# Altium footprint library LDO.PcbLib: 1 footprints
Each footprint in its own frame and in the unit in brackets; x right, y up, seen from the top. Pads: shape width x height; smd on the part's side, far side on the other; paste and mask are expansions set on the pad; w line width, h text height; cw(c..) or ccw(c..) is an arc to the next point about the centre after c.
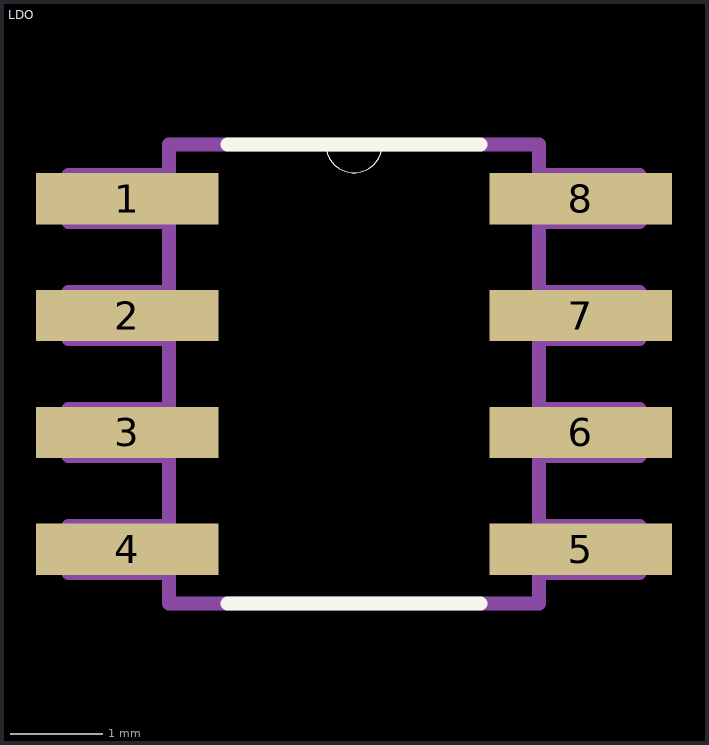
[diagram p0: the footprint, top view; thin cyan lines are the x and y axes]

## LDO [mil]
pads (8):
  rect 78x22 smd: 1(723,605) 2(723,555) 3(723,505) 4(723,455) 5(917,455) 6(917,505) 7(917,555) 8(917,605)
Top Overlay:
  lines w0: 808,628 ccw(c820,628) 832,628
  lines w6: 766,432 874,432 ; 766,628 808,628 832,628 874,628
Mechanical 4:
  lines w0: 808,628 ccw(c820,628) 832,628 cw(c820,628) 808,628
  lines w6: 698,445 698,465 ; 698,445 741,445 ; 698,445 698,465 ; 698,445 741,445 ; 698,465 741,465 ; 698,465 741,465 ; 698,495 698,515 ; 698,495 741,495 ; 698,495 698,515 ; 698,495 741,495 ; 698,515 741,515 ; 698,515 741,515 ; 698,545 698,565 ; 698,545 741,545 ; 698,545 698,565 ; 698,545 741,545 ; 698,565 741,565 ; 698,565 741,565 ; 698,595 698,615 ; 698,595 741,595 ; 698,595 698,615 ; 698,595 741,595 ; 698,615 741,615 ; 698,615 741,615 ; 741,432 899,432 ; 741,432 741,628 ; 741,432 899,432 ; 741,432 741,628 ; 741,445 741,465 ; 741,445 741,465 ; 741,495 741,515 ; 741,495 741,515 ; 741,545 741,565 ; 741,545 741,565 ; 741,595 741,615 ; 741,595 741,615 ; 741,628 808,628 ; 741,628 808,628 ; 808,628 832,628 ; 808,628 832,628 ; 832,628 899,628 ; 832,628 899,628 ; 899,432 899,628 ; 899,432 899,628 ; 899,445 899,465 ; 899,445 942,445 ; 899,445 899,465 ; 899,445 942,445 ; 899,465 942,465 ; 899,465 942,465 ; 899,495 899,515 ; 899,495 942,495 ; 899,495 899,515 ; 899,495 942,495 ; 899,515 942,515 ; 899,515 942,515 ; 899,545 899,565 ; 899,545 942,545 ; 899,545 899,565 ; 899,545 942,545 ; 899,565 942,565 ; 899,565 942,565 ; 899,595 899,615 ; 899,595 942,595 ; 899,595 899,615 ; 899,595 942,595 ; 899,615 942,615 ; 899,615 942,615 ; 942,445 942,465 ; 942,445 942,465 ; 942,495 942,515 ; 942,495 942,515 ; 942,545 942,565 ; 942,545 942,565 ; 942,595 942,615 ; 942,595 942,615